# EAGLE library part EFM32GG11B4*L112 (library EFM32)
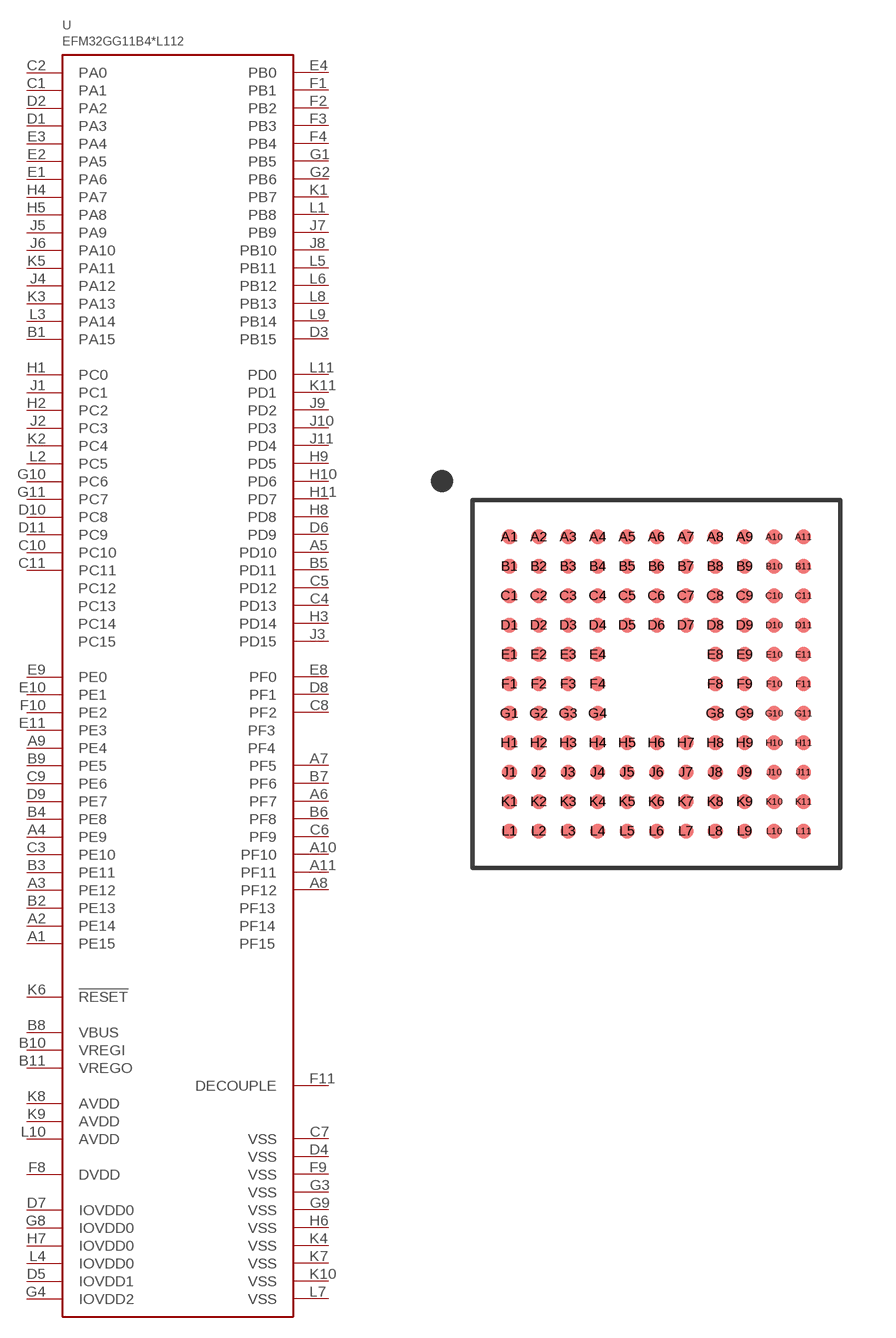
[diagram p22: symbol with the pads of BGA112; footprint BGA112]

Designator prefix U

## EFM32GG11B420F2048GL112, EFM32GG11B420F2048IL112  [BGA112]
A1  PE15
A2  PE14
A3  PE12
A4  PE9
A5  PD10
A6  PF7
A7  PF5
A8  PF12
A9  PE4
A10  PF10
A11  PF11
B1  PA15
B2  PE13
B3  PE11
B4  PE8
B5  PD11
B6  PF8
B7  PF6
B8  VBUS
B9  PE5
B10  VREGI
B11  VREGO
C1  PA1
C2  PA0
C3  PE10
C4  PD13
C5  PD12
C6  PF9
C7  VSS
C8  PF2
C9  PE6
C10  PC10
C11  PC11
D1  PA3
D2  PA2
D3  PB15
D4  VSS
D5  IOVDD1
D6  PD9
D7  IOVDD0
D8  PF1
D9  PE7
D10  PC8
D11  PC9
E1  PA6
E2  PA5
E3  PA4
E4  PB0
E8  PF0
E9  PE0
E10  PE1
E11  PE3
F1  PB1
F2  PB2
F3  PB3
F4  PB4
F8  DVDD
F9  VSS
F10  PE2
F11  DECOUPLE
G1  PB5
G2  PB6
G3  VSS
G4  IOVDD2
G8  IOVDD0
G9  VSS
G10  PC6
G11  PC7
H1  PC0
H2  PC2
H3  PD14
H4  PA7
H5  PA8
H6  VSS
H7  IOVDD0
H8  PD8
H9  PD5
H10  PD6
H11  PD7
J1  PC1
J2  PC3
J3  PD15
J4  PA12
J5  PA9
J6  PA10
J7  PB9
J8  PB10
J9  PD2
J10  PD3
J11  PD4
K1  PB7
K2  PC4
K3  PA13
K4  VSS
K5  PA11
K6  !RESET
K7  VSS
K8  AVDD
K9  AVDD
K10  VSS
K11  PD1
L1  PB8
L2  PC5
L3  PA14
L4  IOVDD0
L5  PB11
L6  PB12
L7  VSS
L8  PB13
L9  PB14
L10  AVDD
L11  PD0

## Footprint BGA112 (pad centres in mm)
smd 0.406 x 0.406: A1 -4,4; A2 -3.2,4; A3 -2.4,4; A4 -1.6,4; A5 -0.8,4; A6 0,4; A7 0.8,4; A8 1.6,4; A9 2.4,4; A10 3.2,4; A11 4,4; B1 -4,3.2; B2 -3.2,3.2; B3 -2.4,3.2; B4 -1.6,3.2; B5 -0.8,3.2; B6 0,3.2; B7 0.8,3.2; B8 1.6,3.2; B9 2.4,3.2; B10 3.2,3.2; B11 4,3.2; C1 -4,2.4; C2 -3.2,2.4; C3 -2.4,2.4; C4 -1.6,2.4; C5 -0.8,2.4; C6 0,2.4; C7 0.8,2.4; C8 1.6,2.4; C9 2.4,2.4; C10 3.2,2.4; C11 4,2.4; D1 -4,1.6; D2 -3.2,1.6; D3 -2.4,1.6; D4 -1.6,1.6; D5 -0.8,1.6; D6 0,1.6; D7 0.8,1.6; D8 1.6,1.6; D9 2.4,1.6; D10 3.2,1.6; D11 4,1.6; E1 -4,0.8; E2 -3.2,0.8; E3 -2.4,0.8; E4 -1.6,0.8; E8 1.6,0.8; E9 2.4,0.8; E10 3.2,0.8; E11 4,0.8; F1 -4,0; F2 -3.2,0; F3 -2.4,0; F4 -1.6,0; F8 1.6,0; F9 2.4,0; F10 3.2,0; F11 4,0; G1 -4,-0.8; G2 -3.2,-0.8; G3 -2.4,-0.8; G4 -1.6,-0.8; G8 1.6,-0.8; G9 2.4,-0.8; G10 3.2,-0.8; G11 4,-0.8; H1 -4,-1.6; H2 -3.2,-1.6; H3 -2.4,-1.6; H4 -1.6,-1.6; H5 -0.8,-1.6; H6 0,-1.6; H7 0.8,-1.6; H8 1.6,-1.6; H9 2.4,-1.6; H10 3.2,-1.6; H11 4,-1.6; J1 -4,-2.4; J2 -3.2,-2.4; J3 -2.4,-2.4; J4 -1.6,-2.4; J5 -0.8,-2.4; J6 0,-2.4; J7 0.8,-2.4; J8 1.6,-2.4; J9 2.4,-2.4; J10 3.2,-2.4; J11 4,-2.4; K1 -4,-3.2; K2 -3.2,-3.2; K3 -2.4,-3.2; K4 -1.6,-3.2; K5 -0.8,-3.2; K6 0,-3.2; K7 0.8,-3.2; K8 1.6,-3.2; K9 2.4,-3.2; K10 3.2,-3.2; K11 4,-3.2; L1 -4,-4; L2 -3.2,-4; L3 -2.4,-4; L4 -1.6,-4; L5 -0.8,-4; L6 0,-4; L7 0.8,-4; L8 1.6,-4; L9 2.4,-4; L10 3.2,-4; L11 4,-4